# EAGLE library part 555167-2 (library con-amp)
AMP connector
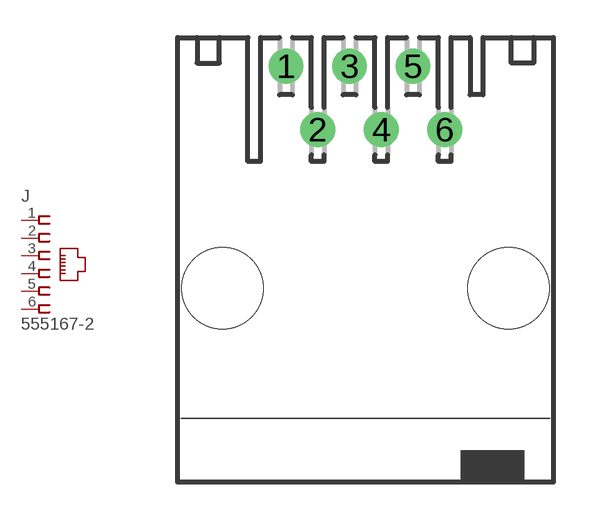
[diagram p32: symbol with the pads of 555167-2; footprint 555167-2]

Designator prefix J

## 555167-2  [555167-2]
1  1  pas
2  2  pas
3  3  pas
4  4  pas
5  5  pas
6  6  pas

## Footprint 555167-2 (pad centres in mm)
Modular Jack Keyed without Panel Stops
drill 0.889 round: 1 -3.175,7.747; 2 -1.905,5.207; 3 -0.635,7.747; 4 0.635,5.207; 5 1.905,7.747; 6 3.175,5.207
hole 3.251 at -5.715,-1.143
hole 3.251 at 5.715,-1.143